# Altium schematic symbol library Library.SchLib: 18 symbols (part 2 of 2)
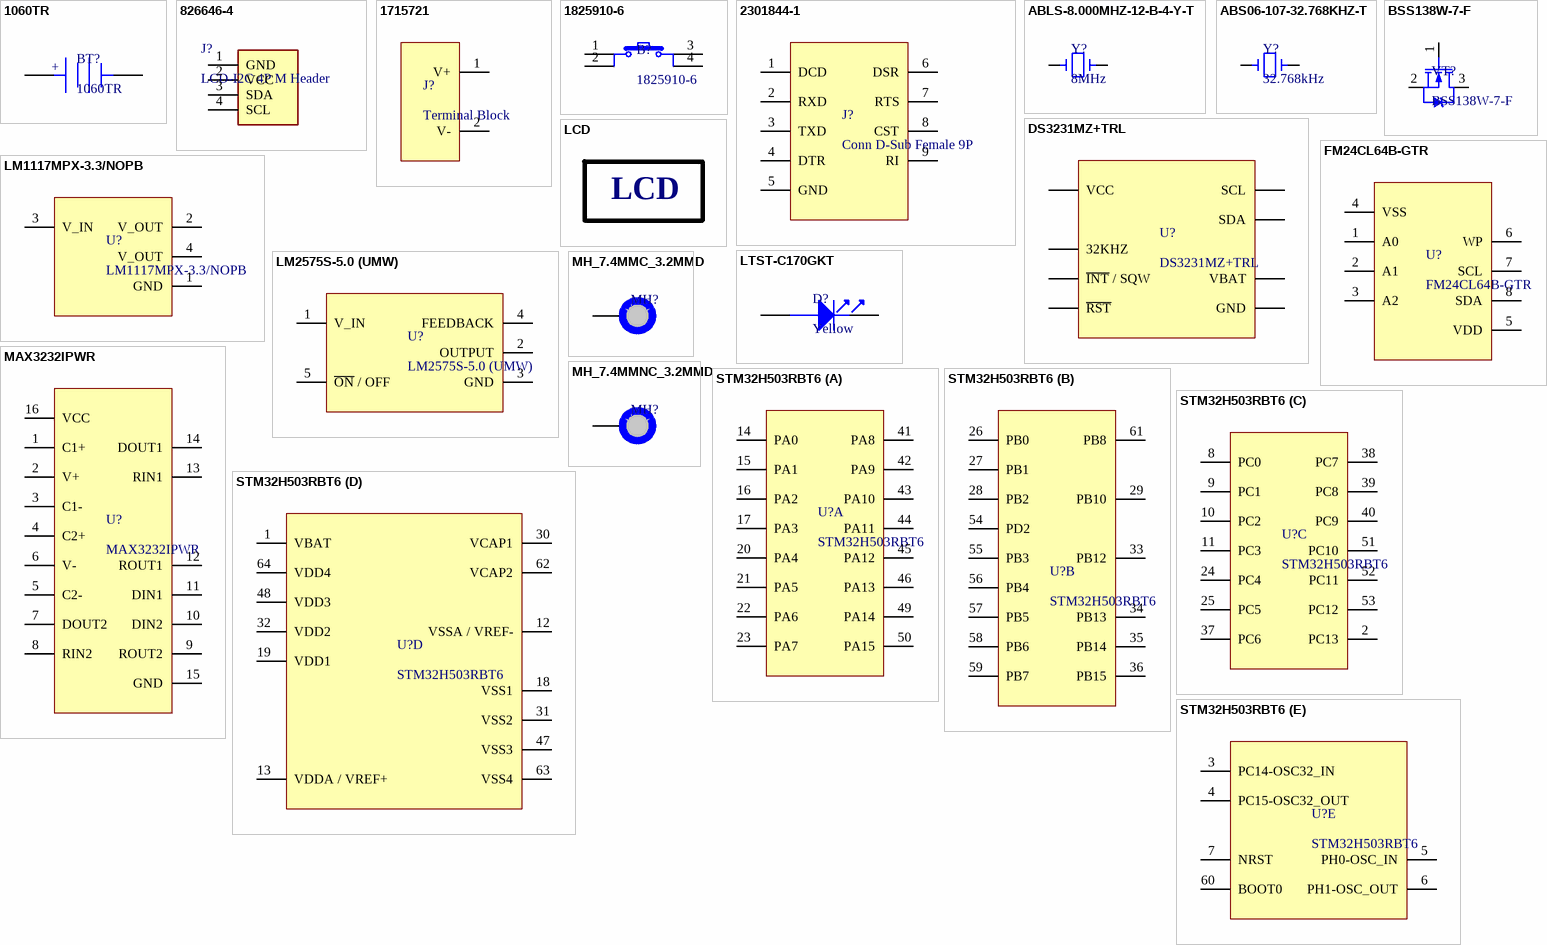
[diagram p1: symbols 1060TR to STM32H503RBT6]

## LTST-C170GKT
designator D?, comment Yellow
LED yellow green 0805 wavelength 569nm light intensity 6mcd Front Mounting; Manufacturer: Lite-On; Manufacturer Part Number: LTST-C170GKT; Current: 4A; Forward Current: 30mA; Forward Voltage: 2.6V; Lens Color: Clear, Colorless; Lens Transparency: Clear; Number of Circuits: 1; Peak Wavelength: 565nm; Power Dissipation: 100mW; Reverse Voltage: 5V; Shape: Rectangular; Test Current: 10mA; Viewing Angle: 130°; Supplier: LCSC; Supplier Part Number: C125090; RoHS: Compliant; Category: LEDs; Stock: 161862; Pricing: 1=0.1, 10=0.066, 50=0.066, 100=0.046, 1000=0.033, 10000=0.028 (USD); Case/Package: 0805; Case Code (Imperial): 0805; Case Code (Metric): 2012; China RoHS: Compliant; Color: Green; Country of Origin: Mainland China; Depth: 1.25mm; Dominant Wavelength: 569nm; Export Control Classification Number (ECCN) Code: EAR99; Height: 1.1mm; Harmonized Tariff Schedule (HTS) Code: 8541.40.20.00; Illumination Color: Green; Introduction Date: 1997-12-01; Lead Free: Lead Free; Length: 2mm; Lifecycle Status: Production; Luminous Intensity: 6mcd; Max Operating Temperature: 85°C; Min Operating Temperature: -55°C; Mounting Technology: Surface Mount; Number of Elements: 1; Number of LEDs: 1; Pins: 2; Number of Terminals: 2; Packaging: Tape and Reel; Power Rating: 100mW; Radiation Hardening: No; REACH SVHC: Yes; Schedule B: 8541402000, 8541402000|8541402000|8541402000|8541402000|8541402000|8541402000|8541402000|8541402000|8541402000|8541402000|8541402000|8541402000|8541402000|8541402000|8541402000|8541402000|8541402000|8541402000|8541402000|8541402000|8541402000|8541402000|8541402000|85; Terminal Pitch: 2.1mm; Voltage: 5V; Wavelength: 569nm; Width: 1.25mm; ComponentLink1URL: https://datasheet.octopart.com:443/LTST-C170GKT-Lite-On-datasheet-180605137.pdf?src-supplier=IHS; ComponentLink1Description: https://datasheet.octopart.com:443/LTST-C170GKT-Lite-On-datasheet-180605137.pdf?src-supplier=IHS; ComponentLink2URL: https://datasheet.octopart.com:443/LTST-C170GKT-Lite-On-datasheet-141439001.pdf?src-supplier=Upverter; ComponentLink2Description: https://datasheet.octopart.com:443/LTST-C170GKT-Lite-On-datasheet-141439001.pdf?src-supplier=Upverter; ComponentLink3URL: https://datasheet.octopart.com:443/LTST-C170GKT-Lite-On-datasheet-159307.pdf?src-supplier=Arrow+Electronics; ComponentLink3Description: https://datasheet.octopart.com:443/LTST-C170GKT-Lite-On-datasheet-159307.pdf?src-supplier=Arrow+Electronics; ComponentLink4URL: https://datasheet.octopart.com:443/LTST-C170GKT-Lite-On-datasheet-8330158.pdf?src-supplier=TME; ComponentLink4Description: https://datasheet.octopart.com:443/LTST-C170GKT-Lite-On-datasheet-8330158.pdf?src-supplier=TME; ComponentLink5URL: https://datasheet.octopart.com:443/LTST-C170GKT-Lite-On-datasheet-26684672.pdf?src-supplier=Future+Electronics; ComponentLink5Description: https://datasheet.octopart.com:443/LTST-C170GKT-Lite-On-datasheet-26684672.pdf?src-supplier=Future+Electronics; ComponentLink6URL: https://datasheet.octopart.com:443/LTST-C170GKT-Lite-On-datasheet-59241.pdf?src-supplier=DigiKey; ComponentLink6Description: https://datasheet.octopart.com:443/LTST-C170GKT-Lite-On-datasheet-59241.pdf?src-supplier=DigiKey; ComponentLink7URL: https://datasheet.octopart.com:443/LTST-C170GKT-Lite-On-datasheet-14174986.pdf?src-supplier=iiiC; ComponentLink7Description: https://datasheet.octopart.com:443/LTST-C170GKT-Lite-On-datasheet-14174986.pdf?src-supplier=iiiC
footprint LEDC200X125X120L50N (LED, Chip; 2.00 mm L X 1.25 mm W X 1.20 mm H body)
pins: A Anode, C Cathode

## MAX3232IPWR
designator U?
3- to 5.5-V dual channel 250kbps RS-232 line driver/receiver with +/-15-kV ESD protection 16-TSSOP -40 to 85; Manufacturer: Texas Instruments; Manufacturer Lifecycle Status: ACTIVE; Logic Function: Receiver, Transceiver; Max Supply Voltage: 5.5V; Min Supply Voltage: 3V; Nominal Supply Current: 1mA; Number of Channels: 2; Number of Transceivers: 1; Operating Supply Voltage: 5V; Simplex/Duplex: Full Duplex; Supplier: LCSC; Supplier Part Number: C113205; Manufacturer Part Number: MAX3232IPWR; RoHS: Compliant; Category: Interface ICs; Stock: 14330; Pricing: 5=0.4067, 50=0.3298, 150=0.2922, 500=0.2382, 2000=0.229, 4000=0.2234 (USD); Case/Package: TSSOP; Data Rate: 250kbps; Height: 1.2mm; Lead Free: Lead Free; Length: 5mm; Lifecycle Status: Production; Max Operating Temperature: 85°C; Min Operating Temperature: -40°C; Mounting Technology: Surface Mount; Number of Drivers: 2; Pins: 16; Number of Receivers: 2; Number of Transmitters: 2; Operating Supply Current: 1mA; Packaging: Tape & Reel; Radiation Hardening: No; REACH SVHC: No; Schedule B: 8542390000, 8542390000|8542390000|8542390000|8542390000|8542390000; Thickness: 1mm; Weight: 61.887009mg; Width: 4.4mm; ComponentLink1URL: https://sigma.octopart.com:443/189718192/technical_drawing/Texas-Instruments-MAX3232IPWR.pdf?src-supplier=Texas+Instruments; ComponentLink1Description: https://sigma.octopart.com:443/189718192/technical_drawing/Texas-Instruments-MAX3232IPWR.pdf?src-supplier=Texas+Instruments; ComponentLink2URL: https://octopart.com:443/opatz8j6/c1?t=_hKXffbRldj6-FAdx9vvZTlCpN_QANWvrOAs4dnFDf6dWc17tydYB4U6mkWG4T2M6NDzuWWkG9je3OTeQXkAJmST1u9eGEcNddO8aRHT8OFIHJR8h7tNkKSvTV_mNk5_UEP7BhMPZKNS7vKGjyhW4ZHEaiM3cbiJ0taqf2mCsFqEinyx4YXGL35RWEnDLHxhLkRqdaqFzkcpqcZ8eNg7czsJ5450pytWVUO0-RQm4VUXchupkbjDJfTtkVgMWiNhjlkk2MZ36st2JM0gMFaVxwpmzQz6eUMncXE-zkKY7U1PbzGvsqI_FQt_vyiIieeTkSiyVVry5UrXsqMSSGTXJUQBYhqZPQZX_ddlHb2cVTbWAH3G2uq3QlckCqHYjravtBo&src-supplier=Texas+Instruments; ComponentLink2Description: https://octopart.com:443/opatz8j6/c1?t=_hKXffbRldj6-FAdx9vvZTlCpN_QANWvrOAs4dnFDf6dWc17tydYB4U6mkWG4T2M6NDzuWWkG9je3OTeQXkAJmST1u9eGEcNddO8aRHT8OFIHJR8h7tNkKSvTV_mNk5_UEP7BhMPZKNS7vKGjyhW4ZHEaiM3cbiJ0taqf2mCsFqEinyx4YXGL35RWEnDLHxhLkRqdaqFzkcpqcZ8eNg7czsJ5450pytWVUO0-RQm4VUXchupkbjDJfTtkVgMWiNhjlkk2MZ36st2JM0gMFaVxwpmzQz6eUMncXE-zkKY7U1PbzGvsqI_FQt_vyiIieeTkSiyVVry5UrXsqMSSGTXJUQBYhqZPQZX_ddlHb2cVTbWAH3G2uq3QlckCqHYjravtBo&src-supplier=Texas+Instruments; ComponentLink3URL: https://sigma.octopart.com:443/116621398/technical_drawing/Texas-Instruments-MAX3232IPWR.pdf?src-supplier=Texas+Instruments; ComponentLink3Description: https://sigma.octopart.com:443/116621398/technical_drawing/Texas-Instruments-MAX3232IPWR.pdf?src-supplier=Texas+Instruments; ComponentLink4URL: https://datasheet.octopart.com:443/MAX3232IPWR-Texas-Instruments-datasheet-41216554.pdf?src-supplier=Texas+Instruments; ComponentLink4Description: https://datasheet.octopart.com:443/MAX3232IPWR-Texas-Instruments-datasheet-41216554.pdf?src-supplier=Texas+Instruments; ComponentLink5URL: https://datasheet.octopart.com:443/MAX3232IPWR-Texas-Instruments-datasheet-36834620.pdf?src-supplier=Texas+Instruments; ComponentLink5Description: https://datasheet.octopart.com:443/MAX3232IPWR-Texas-Instruments-datasheet-36834620.pdf?src-supplier=Texas+Instruments; ComponentLink6URL: https://datasheet.octopart.com:443/MAX3232IPWR-Texas-Instruments-datasheet-22123331.pdf?src-supplier=Texas+Instruments; ComponentLink6Description: https://datasheet.octopart.com:443/MAX3232IPWR-Texas-Instruments-datasheet-22123331.pdf?src-supplier=Texas+Instruments; ComponentLink7URL: https://datasheet.octopart.com:443/MAX3232IPWR-Texas-Instruments-datasheet-11828648.pdf?src-supplier=Texas+Instruments; ComponentLink7Description: https://datasheet.octopart.com:443/MAX3232IPWR-Texas-Instruments-datasheet-11828648.pdf?src-supplier=Texas+Instruments; ComponentLink8URL: https://datasheet.octopart.com:443/MAX3232IPWR-Texas-Instruments-datasheet-10670759.pdf?src-supplier=Texas+Instruments; ComponentLink8Description: https://datasheet.octopart.com:443/MAX3232IPWR-Texas-Instruments-datasheet-10670759.pdf?src-supplier=Texas+Instruments; ComponentLink9URL: https://datasheet.octopart.com:443/MAX3232IPWR-Texas-Instruments-datasheet-10254354.pdf?src-supplier=Texas+Instruments; ComponentLink9Description: https://datasheet.octopart.com:443/MAX3232IPWR-Texas-Instruments-datasheet-10254354.pdf?src-supplier=Texas+Instruments; ComponentLink10URL: https://sigma.octopart.com:443/49249815/technical_drawing/Texas-Instruments-MAX3232IPWR.pdf?src-supplier=Texas+Instruments; ComponentLink10Description: https://sigma.octopart.com:443/49249815/technical_drawing/Texas-Instruments-MAX3232IPWR.pdf?src-supplier=Texas+Instruments; ComponentLink11URL: https://datasheet.octopart.com:443/MAX3232IPWR-Texas-Instruments-datasheet-8828700.pdf?src-supplier=Farnell; ComponentLink11Description: https://datasheet.octopart.com:443/MAX3232IPWR-Texas-Instruments-datasheet-8828700.pdf?src-supplier=Farnell; ComponentLink12URL: https://datasheet.octopart.com:443/MAX3232IPWR-Texas-Instruments-datasheet-8734276.pdf?src-supplier=Farnell; ComponentLink12Description: https://datasheet.octopart.com:443/MAX3232IPWR-Texas-Instruments-datasheet-8734276.pdf?src-supplier=Farnell; ComponentLink13URL: https://datasheet.octopart.com:443/MAX3232IPWR-Texas-Instruments-datasheet-8527338.pdf?src-supplier=Farnell; ComponentLink13Description: https://datasheet.octopart.com:443/MAX3232IPWR-Texas-Instruments-datasheet-8527338.pdf?src-supplier=Farnell; ComponentLink14URL: https://datasheet.octopart.com:443/MAX3232IPWR-Texas-Instruments-datasheet-611903.pdf?src-supplier=Farnell; ComponentLink14Description: https://datasheet.octopart.com:443/MAX3232IPWR-Texas-Instruments-datasheet-611903.pdf?src-supplier=Farnell; ComponentLink15URL: https://datasheet.octopart.com:443/MAX3232IPWR-Texas-Instruments-datasheet-37563965.pdf?src-supplier=Farnell; ComponentLink15Description: https://datasheet.octopart.com:443/MAX3232IPWR-Texas-Instruments-datasheet-37563965.pdf?src-supplier=Farnell; ComponentLink16URL: https://datasheet.octopart.com:443/MAX3232IPWR-Texas-Instruments-datasheet-26576805.pdf?src-supplier=Farnell; ComponentLink16Description: https://datasheet.octopart.com:443/MAX3232IPWR-Texas-Instruments-datasheet-26576805.pdf?src-supplier=Farnell; ComponentLink17URL: https://datasheet.octopart.com:443/MAX3232IPWR-Texas-Instruments-datasheet-23768451.pdf?src-supplier=Farnell; ComponentLink17Description: https://datasheet.octopart.com:443/MAX3232IPWR-Texas-Instruments-datasheet-23768451.pdf?src-supplier=Farnell; ComponentLink18URL: https://datasheet.octopart.com:443/MAX3232IPWR.-Texas-Instruments-datasheet-62342776.pdf?src-supplier=element14+APAC; ComponentLink18Description: https://datasheet.octopart.com:443/MAX3232IPWR.-Texas-Instruments-datasheet-62342776.pdf?src-supplier=element14+APAC; ComponentLink19URL: https://datasheet.octopart.com:443/MAX3232IPWR.-Texas-Instruments-datasheet-62088785.pdf?src-supplier=element14+APAC; ComponentLink19Description: https://datasheet.octopart.com:443/MAX3232IPWR.-Texas-Instruments-datasheet-62088785.pdf?src-supplier=element14+APAC; ComponentLink20URL: https://datasheet.octopart.com:443/MAX3232IPWR-Texas-Instruments-datasheet-14436492.pdf?src-supplier=Future+Electronics; ComponentLink20Description: https://datasheet.octopart.com:443/MAX3232IPWR-Texas-Instruments-datasheet-14436492.pdf?src-supplier=Future+Electronics; ComponentLink21URL: https://datasheet.octopart.com:443/MAX3232IPWR-Texas-Instruments-datasheet-137316104.pdf?src-supplier=Future+Electronics; ComponentLink21Description: https://datasheet.octopart.com:443/MAX3232IPWR-Texas-Instruments-datasheet-137316104.pdf?src-supplier=Future+Electronics; ComponentLink22URL: https://datasheet.octopart.com:443/MAX3232IPWR-Texas-Instruments-datasheet-165804188.pdf?src-supplier=LCSC; ComponentLink22Description: https://datasheet.octopart.com:443/MAX3232IPWR-Texas-Instruments-datasheet-165804188.pdf?src-supplier=LCSC; ComponentLink23URL: https://datasheet.octopart.com:443/MAX3232IPWR-Texas-Instruments-datasheet-159115493.pdf?src-supplier=LCSC; ComponentLink23Description: https://datasheet.octopart.com:443/MAX3232IPWR-Texas-Instruments-datasheet-159115493.pdf?src-supplier=LCSC; ComponentLink24URL: https://datasheet.octopart.com:443/MAX3232IPWR-Texas-Instruments-datasheet-164415690.pdf?src-supplier=SHENGYU+ELECTRONICS; ComponentLink24Description: https://datasheet.octopart.com:443/MAX3232IPWR-Texas-Instruments-datasheet-164415690.pdf?src-supplier=SHENGYU+ELECTRONICS; ComponentLink25URL: https://datasheet.octopart.com:443/MAX3232IPWR-Texas-Instruments-datasheet-20860975.pdf?src-supplier=Newark; ComponentLink25Description: https://datasheet.octopart.com:443/MAX3232IPWR-Texas-Instruments-datasheet-20860975.pdf?src-supplier=Newark; ComponentLink26URL: https://datasheet.octopart.com:443/MAX3232IPWR-Texas-Instruments-datasheet-14121419.pdf?src-supplier=iiiC; ComponentLink26Description: https://datasheet.octopart.com:443/MAX3232IPWR-Texas-Instruments-datasheet-14121419.pdf?src-supplier=iiiC; ComponentLink27URL: https://datasheet.octopart.com:443/MAX3232IPWR-Texas-Instruments-datasheet-10502933.pdf?src-supplier=Jameco; ComponentLink27Description: https://datasheet.octopart.com:443/MAX3232IPWR-Texas-Instruments-datasheet-10502933.pdf?src-supplier=Jameco; ComponentLink28URL: https://datasheet.octopart.com:443/MAX3232IPWR-Texas-Instruments-datasheet-153559.pdf?src-supplier=Mouser; ComponentLink28Description: https://datasheet.octopart.com:443/MAX3232IPWR-Texas-Instruments-datasheet-153559.pdf?src-supplier=Mouser; ComponentLink29URL: https://datasheet.octopart.com:443/MAX3232IPWR-Texas-Instruments-datasheet-5793.pdf?src-supplier=DigiKey; ComponentLink29Description: https://datasheet.octopart.com:443/MAX3232IPWR-Texas-Instruments-datasheet-5793.pdf?src-supplier=DigiKey; ComponentLink30URL: http://sigma.octopart.com:80/reach_statement/Texas-Instruments-company-64.pdf?src-supplier=Compliance+Statements; ComponentLink30Description: http://sigma.octopart.com:80/reach_statement/Texas-Instruments-company-64.pdf?src-supplier=Compliance+Statements; ComponentLink31URL: http://sigma.octopart.com:80/conflict_mineral_statement/Texas-Instruments-company-63.pdf?src-supplier=Compliance+Statements; ComponentLink31Description: http://sigma.octopart.com:80/conflict_mineral_statement/Texas-Instruments-company-63.pdf?src-supplier=Compliance+Statements
footprint SOP16P65_500X640X120L62X23N (Small Outline Pkg (SOP), 0.65 mm pitch; 16 pin, 5.00 mm L X 4.40 mm W X 1.20 mm H body)
pins: 1 C1+, 2 V+, 3 C1-, 4 C2+, 5 C2-, 6 V-, 7 DOUT2, 8 RIN2, 9 ROUT2, 10 DIN2, 11 DIN1, 12 ROUT1, 13 RIN1, 14 DOUT1, 15 GND, 16 VCC

## MH_7.4MMC_3.2MMD
designator MH?  (value not drawn)  (no BOM)
Mounting Hole 7.4mm Diameter, 3.2mm Drill
footprint MH_7.4MMD_3.2MMD
pins: 1

## MH_7.4MMNC_3.2MMD
designator MH?  (value not drawn)  (no BOM)
Mounting Hole 7.4mm Diameter (Non Copper), 3.2mm Drill
footprint MH_7.4MMD_3.2MMD_NON_COPPER_NPTH
pins: 1

## STM32H503RBT6
designator U?
RISC Microcontroller, 32-Bit, FLASH, CORTEX-M4F CPU, 180MHz, CMOS, PBGA216; Manufacturer: STMicroelectronics; Supplier: LCSC; Supplier Part Number: C6807804; Manufacturer Part Number: STM32H503RBT6; RoHS: Compliant; Category: Microcontrollers; Stock: 883; Pricing: 1=3.5339, 10=3.0062, 30=2.6936, 160=2.3779, 480=2.2319, 960=2.1659 (USD); Country of Origin: Mainland China, Taiwan; Export Control Classification Number (ECCN) Code: 3A991.A.2; Harmonized Tariff Schedule (HTS) Code: 8542.31.00.30; Lifecycle Status: Production; REACH SVHC: Yes; ComponentLink1URL: https://datasheet.octopart.com:443/STM32H503RBT6-STMicroelectronics-datasheet-188928330.pdf?src-supplier=TME; ComponentLink1Description: https://datasheet.octopart.com:443/STM32H503RBT6-STMicroelectronics-datasheet-188928330.pdf?src-supplier=TME
footprint QFP64P50_1200X1200X160L60X22N (Quad Flat Pack (QFP), 0.50 mm pitch; 64 pin, square, 16 pin X 16 pin, 10.00 mm L X 10.00 mm W X 1.60 mm H body)
part A pins: 14 PA0, 15 PA1, 16 PA2, 17 PA3, 20 PA4, 21 PA5, 22 PA6, 23 PA7, 41 PA8, 42 PA9, 43 PA10, 44 PA11, 45 PA12, 46 PA13, 49 PA14, 50 PA15
part B pins: 26 PB0, 27 PB1, 28 PB2, 29 PB10, 33 PB12, 34 PB13, 35 PB14, 36 PB15, 54 PD2, 55 PB3, 56 PB4, 57 PB5, 58 PB6, 59 PB7, 61 PB8
part C pins: 2 PC13, 8 PC0, 9 PC1, 10 PC2, 11 PC3, 24 PC4, 25 PC5, 37 PC6, 38 PC7, 39 PC8, 40 PC9, 51 PC10, 52 PC11, 53 PC12
part D pins: 1 VBAT, 12 VSSA / VREF-, 13 VDDA / VREF+, 18 VSS1, 19 VDD1, 30 VCAP1, 31 VSS2, 32 VDD2, 47 VSS3, 48 VDD3, 62 VCAP2, 63 VSS4, 64 VDD4
part E pins: 3 PC14-OSC32_IN, 4 PC15-OSC32_OUT, 5 PH0-OSC_IN, 6 PH1-OSC_OUT, 7 NRST, 60 BOOT0